# EAGLE library part MICRO-USB (library PPMK_MSP430FR6989)
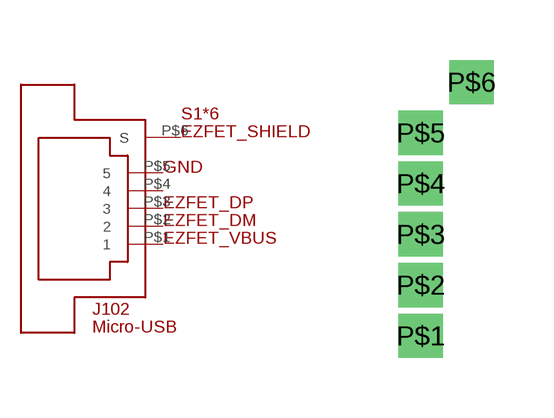
[diagram p5: symbol with the pads of MICRO-USB; footprint MICRO-USB]

Designator prefix -

## MICRO-USB  [MICRO-USB]
P$1  1
P$2  2
P$3  3
P$4  4
P$5  5
P$6  S

## Footprint MICRO-USB (pad centres in mm)
drill 0.6 square: P$1 -1.27,3.81; P$2 -1.27,5.08; P$3 -1.27,6.35; P$4 -1.27,7.62; P$5 -1.27,8.89; P$6 0,10.16